# Altium schematic symbol library Fairchild.SchLib: 1 symbol
Pins are listed as number, name and electrical type; pins without a type are passive.

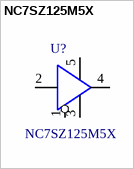
[diagram p0: symbol NC7SZ125M5X]

## NC7SZ125M5X
designator U?
IC BUFF TRI-ST UHS N-INV SOT23-5; Manufacturer: Fairchild Semiconductor; Supplier 1: Digi-Key; Supplier Part Number 1: NC7SZ125M5CT-ND; Supplier 2: Mouser; Supplier Part Number 2: 512-NC7SZ125M5X; PartNumber: NC7SZ125M5X
footprint SOT23-5 (SOT23, 5-Leads, Body 3.13x2.80mm, Pitch 0.95mm, IPC Medium Density)
pins: 1 OE, 2 A, 3 GND, 4 Y, 5 VCC